# Altium schematic symbol library HT_L293D_Driver.SchLib: 21 symbols
Pins are listed as number, name and electrical type; pins without a type are passive.

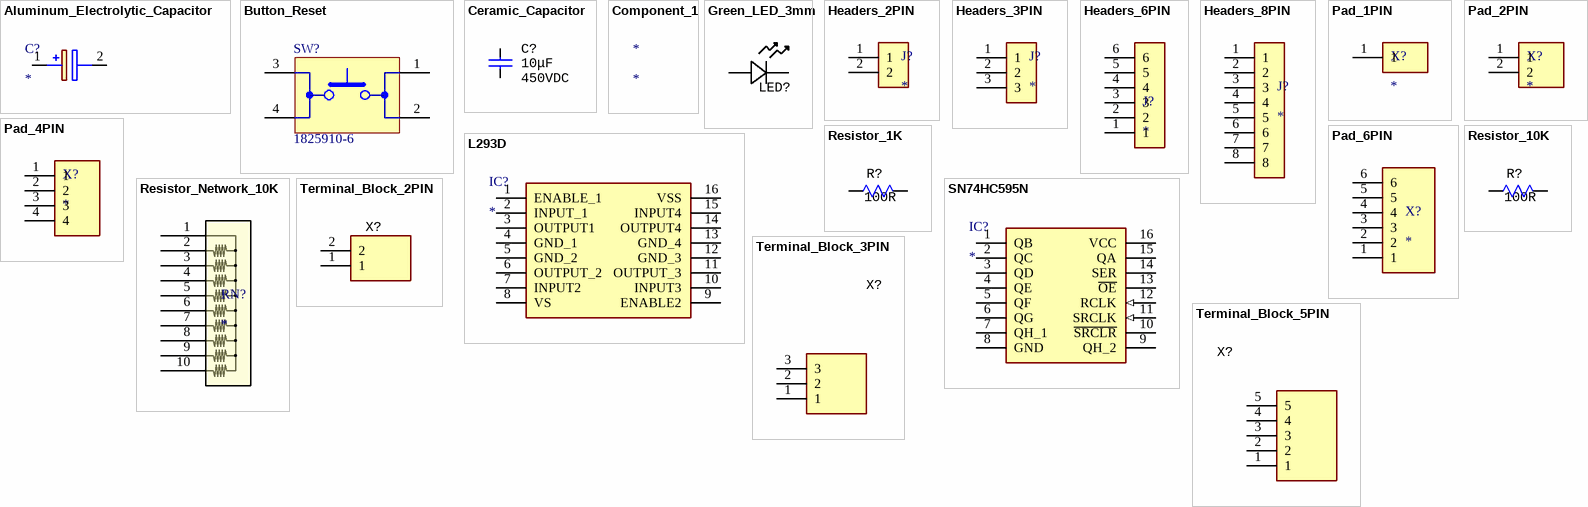
[diagram p0: symbols Aluminum_Electrolytic_Capacitor to Terminal_Block_5PIN]

## Aluminum_Electrolytic_Capacitor
designator C?
Capacitor Polarised; Manufacturer_Name: United Chemi-Con; Manufacturer_Part_Number: EKY-350ETC221MH15D; Datasheet Link: http://www.mouser.com/datasheet/2/420/United-Chemi-Con-1109128.pdf; Height: 21.5mm; Mouser Part Number: N/A; Mouser Price/Stock: https://www.mouser.com/Search/Refine.aspx?Keyword=N%2FA
footprint Aluminum_Electrolytic_Capacitor
pins: 1 +, 2 -

## Button_Reset
designator SW?, comment 1825910-6
SWITCH TACTILE SPST-NO 0.05A 24V; Manufacturer: TE Connectivity; Switch Function: Off-Mom; Contact Rating @ Voltage: 0.05A @ 24VDC; Actuator Type: Standard; Actuator Height off PCB, from Pins: 5.00mm; Actuator Orientation: Top Actuated; Outline: 6.00mm x 6.00mm; Illumination: Non-Illuminated; Operating Force: 160gf; Actuator Material: Polybutylene Terephthalate (PBT); Switch Travel: 0.25mm; Mechanical Life: 100,000 Cycles; .Creator: MM; .Checked PCB: RF; Supplier 1: Digi-Key; Manufacturer Part Number: 1825910-6; RoHS: RoHS Compliant; Category: Switches; Stock 1: 181823; Pricing 1: 1=0.1, 10=0.095, 25=0.0912, 50=0.088, 100=0.0831, 250=0.07824, 500=0.07498, 1000=0.05705 (USD); Packaging: Bulk; Circuit: SPST-NO; Mounting Type: Through Hole; Termination Style: PC Pin; Illumination Voltage (Nominal): -; Illumination Type, Color: -; Ingress Protection: -; Features: -; Operating Temperature: -35°C ~ 85°C; ComponentLink1URL: http://www.te.com/commerce/DocumentDelivery/DDEController?Action=srchrtrv&DocNm=1825910&DocType=Customer+Drawing&DocLang=English; ComponentLink1Description: http://www.te.com/commerce/DocumentDelivery/DDEController?Action=srchrtrv&DocNm=1825910&DocType=Customer+Drawing&DocLang=English; Supplier Part Number 1: 450-1650-ND; .Checked SCH: RF
footprint 1825910-6
pins: 1, 2, 3 MECH1, 4 MECH2

## Ceramic_Capacitor
designator C?  value 10μF  Voltage: 450VDC
Manufacturer: Epcos; PartNumber: B32774D4106K000; ValueManufacturerPartNumber: Film capacitor, 10μF, 450VDC, ±10%, 10.9mOhm, 31.5x15 mm, -40...+105°C; TypeCapacitor: Film capacitor; Tolerance: ±10%; Impedance: 10.9mOhm; Package: 31.5x15 mm; HelpURL: https://www.digikey.com/products/en/capacitors/film-capacitors/62?k=&pkeyword=&sv=0&pv2097=1958&sf=0&FV=fffc01ef%2C1f140000%2Cffe0003e%2Cffec6366&quantity=1&ColumnSort=1000011&page=1&stock=1&pageSize=25; Temperature: -40...+105°C
footprint CERAMIC_CAPACITOR_0.1uF
pins: 1, 2

## Component_1
designator *

## Green_LED_3mm
designator LED?
ValueManufacturerPartNumber: LED, Green, *, *, *, -55...+150°C; TypeDiode: LED; ColorParameter: Green; Manufacturer: *; Package: *; HelpURL: *; Temperature: -55...+150°C; Current: *; VoltageDrop: *; PartNumber: *
footprint Green_LED_3mm
pins: 1, 2

## Headers_2PIN
designator J?
MF: {'manufacturer': u'TE Connectivity'}; MP: 87227-3; Price: None; Availability: Unavailable; Value: *; Package: None
footprint HEADERS_2PIN
pins: 1, 2

## Headers_3PIN
designator J?
MF: {'manufacturer': u'TE Connectivity'}; MP: 87227-3; Price: None; Availability: Unavailable; Value: *; Package: None
footprint HEADERS_3PIN
pins: 1, 2, 3

## Headers_6PIN
designator J?
MF: {'manufacturer': u'TE Connectivity'}; MP: 87227-3; Price: None; Availability: Unavailable; Value: *; Package: None
footprint HEADERS_6PIN
pins: 1, 2, 3, 4, 5, 6

## Headers_8PIN
designator J?
MF: {'manufacturer': u'TE Connectivity'}; MP: 87227-3; Price: None; Availability: Unavailable; Value: *; Package: None
footprint HEADERS_8PIN
pins: 1, 2, 3, 4, 5, 6, 7, 8

## L293D
designator IC?
Integrated Circuit; Manufacturer_Name: STMicroelectronics; Manufacturer_Part_Number: L293D; Datasheet Link: http://www.st.com/web/en/resource/technical/document/datasheet/CD00000059.pdf; Height: 5.1mm; Mouser Part Number: 511-L293D; Mouser Price/Stock: https://www.mouser.co.uk/ProductDetail/STMicroelectronics/L293D?qs=gr8Zi5OG3MgMJ1ICDzLQbg%3D%3D; Arrow Part Number: L293D; Arrow Price/Stock: https://www.arrow.com/en/products/l293d/stmicroelectronics?region=nac
footprint L293D_WITH_DIP16
pins: 1 ENABLE_1, 2 INPUT_1, 3 OUTPUT1, 4 GND_1, 5 GND_2, 6 OUTPUT_2, 7 INPUT2, 8 VS, 9 ENABLE2, 10 INPUT3, 11 OUTPUT_3, 12 GND_3, 13 GND_4, 14 OUTPUT4, 15 INPUT4, 16 VSS

## Pad_1PIN
designator X?
footprint PAD_1PIN
pins: 1

## Pad_2PIN
designator X?
footprint PAD_2PIN
pins: 1, 2

## Pad_4PIN
designator X?
footprint PAD_4PIN
pins: 1, 2, 3, 4

## Pad_6PIN
designator X?
footprint PAD_6PIN
pins: 1, 2, 3, 4, 5, 6

## Resistor_1K
designator R?  value 100R
Manufacturer: Yageo; PartNumber: RC0201JR-07100RL; TypeResistor: Resistor film; Power: 0.05W; Package: 0201; HelpURL: https://www.digikey.com/product-detail/en/yageo/RC0201JR-07100RL/311-100NCT-ND/1949006; ValueManufacturerPartNumber: =TypeResistor+', '+Value+', '+Tolerance+', '+Package+', '+Power+', '+Temperature; Temperature: -55...+125°C
footprint RESISTOR_TH_1K
pins: 1, 2

## Resistor_10K
designator R?  value 100R
Manufacturer: Yageo; PartNumber: RC0201JR-07100RL; TypeResistor: Resistor film; Power: 0.05W; Package: 0201; HelpURL: https://www.digikey.com/product-detail/en/yageo/RC0201JR-07100RL/311-100NCT-ND/1949006; ValueManufacturerPartNumber: =TypeResistor+', '+Value+', '+Tolerance+', '+Package+', '+Power+', '+Temperature; Temperature: -55...+125°C
footprint RESISTOR_TH_10K
pins: 1, 2

## Resistor_Network_10K
designator RN?
footprint RESISTOR_NETWORK_10K
pins: 1, 2, 3, 4, 5, 6, 7, 8, 9, 10

## SN74HC595N
designator IC?
Integrated Circuit; Manufacturer_Name: Texas Instruments; Manufacturer_Part_Number: SN74HC595N; Datasheet Link: http://www.ti.com/lit/ds/symlink/sn74hc595.pdf; Height: 5.08mm; Mouser Part Number: 595-SN74HC595N; Mouser Price/Stock: https://www.mouser.co.uk/ProductDetail/Texas-Instruments/SN74HC595N?qs=IEl3ej0IqwBTHkYa8XPoMQ%3D%3D; Arrow Part Number: SN74HC595N; Arrow Price/Stock: https://www.arrow.com/en/products/sn74hc595n/texas-instruments?region=nac
footprint L293D_WITH_DIP16
pins: 1 QB, 2 QC, 3 QD, 4 QE, 5 QF, 6 QG, 7 QH_1, 8 GND (power), 9 QH_2, 10 ~{SRCLR}, 11 SRCLK (in), 12 RCLK (in), 13 ~{OE}, 14 SER, 15 QA, 16 VCC (power)

## Terminal_Block_2PIN
designator X?
Manufacturer: Degson; ValueManufacturerPartNumber: Terminal connector, 2pin, 3.5mm, 300VAC, 10A; PartNumber: DG350-3.5-02P-14; TypeConnector: Terminal connector; VoltageMax: 300VAC; Pitch: 3.5mm; CurrentMax: 10A; Multichannel: 2pin; CommentText: "Разъем"; HelpURL: https://www.chipdip.ru/product/dg350-3.5-02p-12
footprint Terminal_Block_2PIN
pins: 1, 2

## Terminal_Block_3PIN
designator X?
Manufacturer: Degson; ValueManufacturerPartNumber: Terminal connector, 3pin, 3.5mm, 300VAC, 10A; PartNumber: DG350-3.5-03P-14; TypeConnector: Terminal connector; VoltageMax: 300VAC; Pitch: 3.5mm; CurrentMax: 10A; Multichannel: 3pin; CommentText: "Разъем"; HelpURL: https://www.chipdip.ru/product/dg350-3.5-03p-12
footprint TERMINAL_BLOCK_3PIN
pins: 1, 2, 3

## Terminal_Block_5PIN
designator X?
Manufacturer: Degson; ValueManufacturerPartNumber: Terminal connector, 3pin, 3.5mm, 300VAC, 10A; PartNumber: DG350-3.5-03P-14; TypeConnector: Terminal connector; VoltageMax: 300VAC; Pitch: 3.5mm; CurrentMax: 10A; Multichannel: 3pin; CommentText: "Разъем"; HelpURL: https://www.chipdip.ru/product/dg350-3.5-03p-12
footprint TERMINAL_BLOCK_5PIN
pins: 1, 2, 3, 4, 5